# Altium footprint library PCB_Antenna_2_4GHz.PcbLib: 1 footprints
Each footprint in its own frame and in the unit in brackets; x right, y up, seen from the top. Pads: shape width x height; smd on the part's side, far side on the other; paste and mask are expansions set on the pad; w line width, h text height; cw(c..) or ccw(c..) is an arc to the next point about the centre after c.
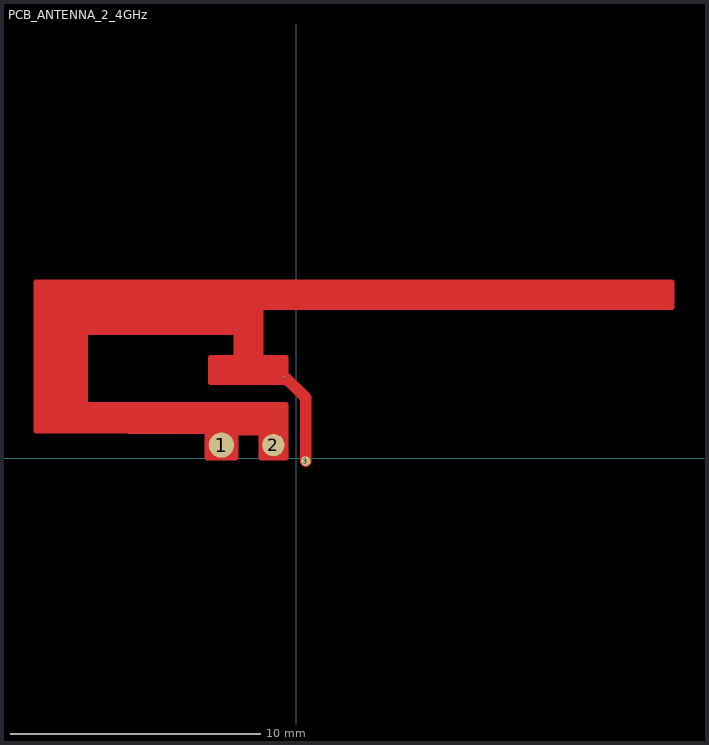
[diagram p0: the footprint, top view; thin cyan lines are the x and y axes]

## PCB_ANTENNA_2_4GHz [mil]
pads (7):
  round 40 smd: 1(-117.63,21)
  round 0.5 smd: 1(-18.87,128.87) 1(14.74,-4) 1(14.74,95.26) 1(14.74,95.26)
  round 35 smd: 2(-35.95,21)
  round 15 smd: 3(14.74,-4)
Top Layer:
  lines w8: -409.26,45 -16.26,45 ; -409.26,53 -16.26,53 ; -409.26,61 -16.26,61 ; -409.26,69 -16.26,69 ; -409.26,77 -16.26,77 ; -409.26,85 -16.26,85 ; -409.26,93 -331.22,93 ; -409.26,101 -331.22,101 ; -409.26,109 -331.22,109 ; -409.26,117 -331.22,117 ; -409.26,125 -331.22,125 ; -409.26,133 -331.22,133 ; -409.26,141 -331.22,141 ; -409.26,149 -331.22,149 ; -409.26,157 -331.22,157 ; -409.26,165 -331.22,165 ; -409.26,173 -331.22,173 ; -409.26,181 -331.22,181 ; -409.26,189 -331.22,189 ; -409.26,197 -331.22,197 ; -409.26,205 -55.63,205 ; -409.26,213 -55.63,213 ; -409.26,221 -55.63,221 ; -409.26,229 -55.63,229 ; -409.26,237 -55.63,237 ; -409.26,245 590.74,245 ; -409.26,253 590.74,253 ; -409.26,261 590.74,261 ; -409.26,269 590.74,269 ; -140.26,5 -95,5 ; -140.26,13 -95,13 ; -140.26,21 -95,21 ; -140.26,29 -95,29 ; -140.26,37 -95,37 ; -134.37,125 -16.26,125 ; -134.37,133 -16.26,133 ; -134.37,141 -16.26,141 ; -134.37,149 -16.26,149 ; -134.37,157 -16.26,157 ; -95,165 -55.63,165 ; -95,173 -55.63,173 ; -95,181 -55.63,181 ; -95,189 -55.63,189 ; -95,197 -55.63,197 ; -55.63,5 -16.26,5 ; -55.63,13 -16.26,13 ; -55.63,21 -16.26,21 ; -55.63,29 -16.26,29 ; -55.63,37 -16.26,37 ; -16.26,85 -331.22,85 -331.22,197.85 -95,197.85 -95,158.48 -134.37,158.48 -134.37,119.11 -16.26,119.11 -16.26,158.48 -55.63,158.48 -55.63,237.22 590.74,237.22 590.74,277 -409.26,277 -409.26,43 -388.26,43 -140.26,42 -140.26,1 -95,1 -95,40.37 -55.63,40.37 -55.63,1 -16.26,1 -16.26,85
  lines w18: -18.87,128.87 14.74,95.26 14.74,-4